# Altium footprint library TransistorThyristor_SMD.PcbLib: 42 footprints (part 3 of 3)
Each footprint in its own frame and in the unit in brackets; x right, y up, seen from the top. Pads: shape width x height; smd on the part's side, far side on the other; paste and mask are expansions set on the pad; w line width, h text height; cw(c..) or ccw(c..) is an arc to the next point about the centre after c.
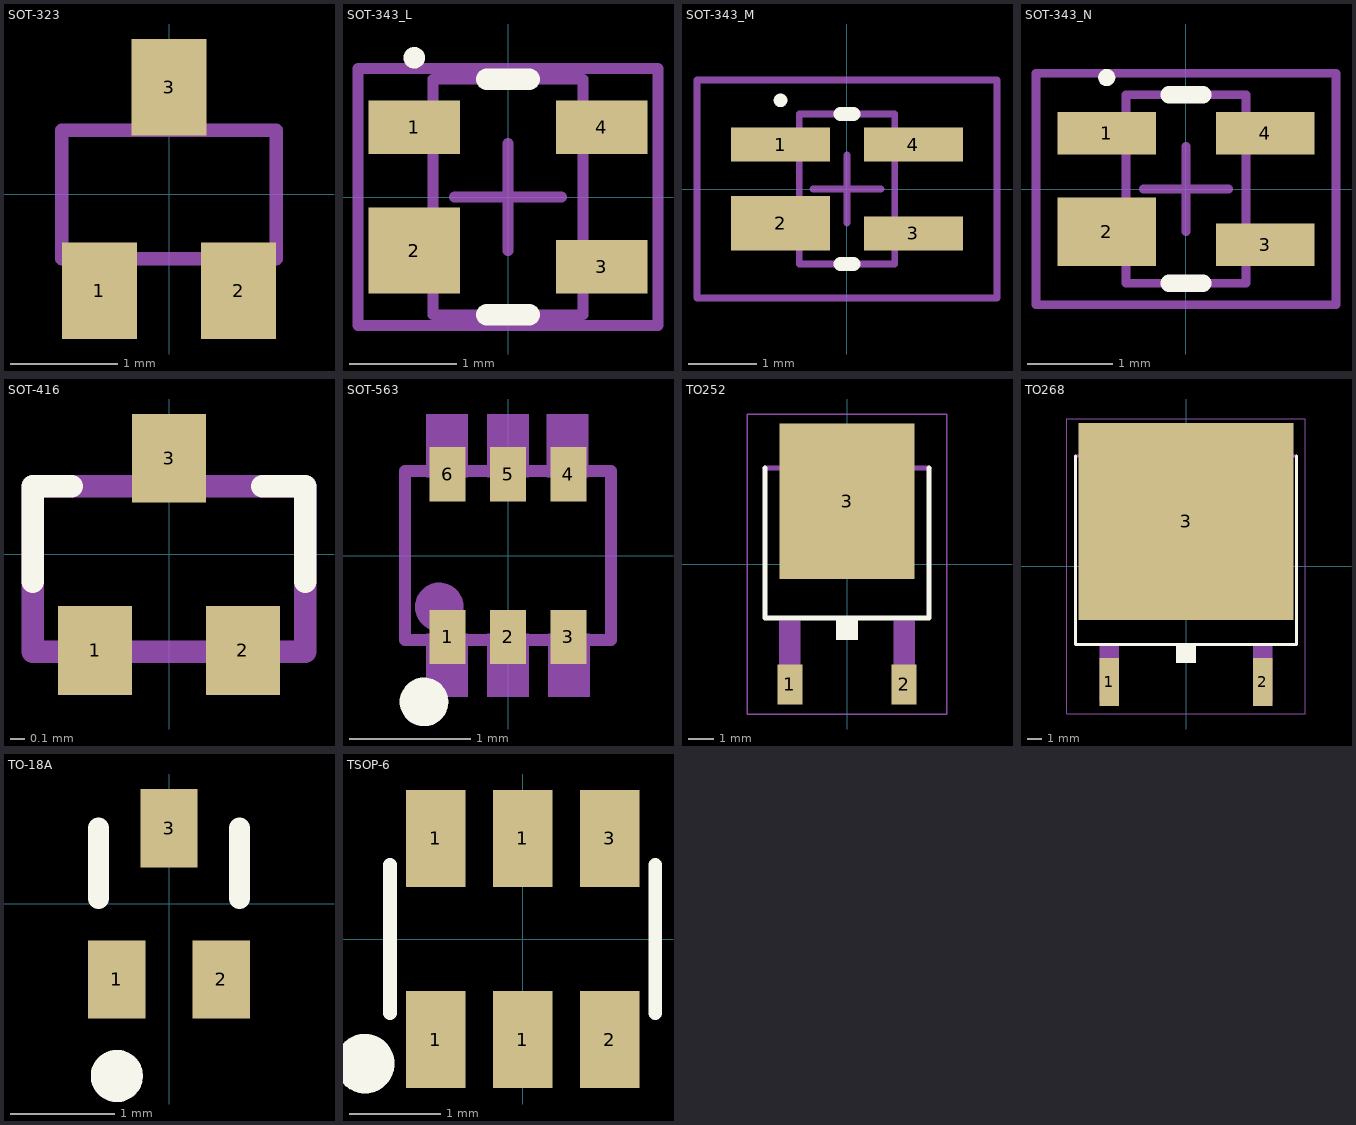
[diagram p2: the footprints below, top view; thin cyan lines are the x and y axes]

## SOT-323 [mm]
pads (3):
  rect 0.7x0.9 smd: 1(-0.65,-0.9) 2(0.65,-0.9) 3(0,1)
Mechanical 16:
  lines w0.127: -0.75,-0.6 -0.75,-1 -0.55,-1 -0.55,-0.6 ; -0.75,-0.6 -1,-0.6 -1,0.6 -0.1,0.6 ; -0.75,-0.6 -0.55,-0.6 ; -0.55,-0.6 0.55,-0.6 ; -0.1,0.6 -0.1,1 0.1,1 0.1,0.6 ; -0.1,0.6 0.1,0.6 ; 0.1,0.6 1,0.6 1,-0.6 0.75,-0.6 ; 0.55,-0.6 0.55,-1 0.75,-1 0.75,-0.6 ; 0.55,-0.6 0.75,-0.6
3D body "User Library-sc70-3.step": height 0.97, standoff -0.03, extent -1.05,-1.15 1.05,1.15

## SOT-343_L [mm] "SOT343, 4-Leads, Body 2x1.3 mm, Pitch 1.3mm, Lead Span 2.1mm, IPC High Density"
height 1
pads (4):
  rect 0.85x0.5 smd: 1(-0.875,0.65) 3(0.875,-0.65) 4(0.875,0.65)
  rect 0.85x0.8 smd: 2(-0.875,-0.5)
Top Overlay:
  circle w0.1: c-0.875,1.3 r0.05
  lines w0.2: -0.2,-1.1 0.2,-1.1 ; -0.2,1.1 0.2,1.1
Mechanical 13:
  lines w0.1: -0.7,-1.1 -0.7,1.1 0.7,1.1 0.7,-1.1 -0.7,-1.1
Mechanical 15:
  lines w0.1: -0.5,0 0.5,0 ; 0,-0.5 0,0.5 ; -1.4,-1.2 -1.4,1.2 1.4,1.2 1.4,-1.2 -1.4,-1.2
3D body "User Library-sot343.step": height 0.97, standoff -0.03, extent -1.15,-1.05 1.15,1.05

## SOT-343_M [mm] "SOT343, 4-Leads, Body 2x1.3 mm, Pitch 1.3mm, Lead Span 2.1mm, IPC Low Density"
height 1
pads (4):
  rect 1.45x0.5 smd: 1(-0.975,0.65) 3(0.975,-0.65) 4(0.975,0.65)
  rect 1.45x0.8 smd: 2(-0.975,-0.5)
Top Overlay:
  circle w0.1: c-0.975,1.3 r0.05
  lines w0.2: -0.1,-1.1 0.1,-1.1 ; -0.1,1.1 0.1,1.1
Mechanical 13:
  lines w0.1: -0.7,-1.1 -0.7,1.1 0.7,1.1 0.7,-1.1 -0.7,-1.1
Mechanical 15:
  lines w0.1: -0.5,0 0.5,0 ; 0,-0.5 0,0.5 ; -2.2,-1.6 -2.2,1.6 2.2,1.6 2.2,-1.6 -2.2,-1.6
3D body "User Library-sot343.step": height 0.97, standoff -0.03, extent -1.15,-1.05 1.15,1.05

## SOT-343_N [mm] "SOT343, 4-Leads, Body 2x1.3 mm, Pitch 1.3mm, Lead Span 2.1mm, IPC Medium Density"
height 1
pads (4):
  rect 1.15x0.5 smd: 1(-0.925,0.65) 3(0.925,-0.65) 4(0.925,0.65)
  rect 1.15x0.8 smd: 2(-0.925,-0.5)
Top Overlay:
  circle w0.1: c-0.925,1.3 r0.05
  lines w0.2: -0.2,-1.1 0.2,-1.1 ; -0.2,1.1 0.2,1.1
Mechanical 13:
  lines w0.1: -0.7,-1.1 -0.7,1.1 0.7,1.1 0.7,-1.1 -0.7,-1.1
Mechanical 15:
  lines w0.1: -0.5,0 0.5,0 ; 0,-0.5 0,0.5 ; -1.75,-1.35 -1.75,1.35 1.75,1.35 1.75,-1.35 -1.75,-1.35
3D body "User Library-sot343.step": height 0.97, standoff -0.03, extent -1.15,-1.05 1.15,1.05

## SOT-416 [mm]
pads (3):
  rect 0.5x0.6 smd: 1(-0.5,-0.65) 2(0.5,-0.65) 3(0,0.65)
Top Overlay:
  lines w0.152: -0.923,-0.185 -0.923,0.461 -0.658,0.461 ; 0.633,0.461 0.923,0.461 0.923,-0.185
Top Solder:
  rectangle: -0.87,-1.08 0.87,0.74
Mechanical 16:
  lines w0.152: -0.923,-0.66 -0.923,0.461 0.923,0.461 0.923,-0.66 -0.923,-0.66
3D body "User Library-SOT-416.step": height 0.79, standoff -0.01, extent -0.8,-0.8 0.8,0.8

## SOT-563 [mm]
pads (6):
  rect 0.3x0.45 smd: 1(-0.5,-0.674) 2(0,-0.674) 3(0.5,-0.674) 4(0.5,0.674) 5(0,0.674) 6(-0.5,0.674)
Top Overlay:
  circle w0.203: c-0.696,-1.214 r0.1
Mechanical 16:
  circle w0.203: c-0.569,-0.426 r0.1
  rectangle: -0.68,-1.173 -0.33,-0.648
  rectangle: -0.175,-1.173 0.175,-0.648
  rectangle: 0.33,-1.173 0.68,-0.648
  rectangle: 0.318,0.648 0.668,1.173
  rectangle: -0.175,0.648 0.175,1.173
  rectangle: -0.68,0.648 -0.33,1.173
  lines w0.102: -0.853,-0.7 -0.853,0.7 0.853,0.7 0.853,-0.7 -0.853,-0.7
3D body "User Library-SOT-563.step": height 0.56, standoff -0.03, extent -0.8,-0.813 0.8,0.813

## TO252 [mm]
pads (3):
  rect 1x1.6 smd: 1(-2.28,-4.8) 2(2.28,-4.8)
  rect 5.4x6.2 smd: 3(0,2.5)
Top Overlay:
  rectangle: -0.432,-3.023 0.432,-2.261
  lines w0.203: -3.277,3.835 -3.277,-2.159 3.277,-2.159 3.277,3.835
Mechanical 16:
  rectangle: -2.718,-5.156 -1.854,-2.261
  rectangle: 1.854,-5.156 2.718,-2.261
  region: 0,0 0.254,0 0.254,0.254 0,0.254
  lines w0.203: -3.277,3.835 3.277,3.835 ; -2.565,3.937 -2.565,4.648 -2.108,5.105 2.108,5.105 2.565,4.648 2.565,3.937 -2.565,3.937
Mechanical 27:
  lines w0.051: -3.973,-5.983 3.973,-5.983 3.973,5.983 -3.973,5.983 -3.973,-5.983
3D body "User Library-DPAK-TO2521.step": height 2.29, standoff -0.13, extent -3.295,-4.947 3.245,4.991

## TO268 [mm]
pads (3):
  rect 1.4x3.4 smd: 1(-5.45,-8.2) 2(5.45,-8.2)
  rect 15.24x13.991 smd: 3(0,3.2)
Top Overlay:
  rectangle: -0.72,-6.85 0.72,-5.55
  lines w0.203: -7.857,7.835 -7.857,-5.549 7.857,-5.549 7.857,7.835
Top Solder:
  rectangle: -7,-3.7 7,10.1
Mechanical 16:
  rectangle: -6.15,-9.55 -4.75,-6.85
  rectangle: -6.15,-6.85 -4.75,-5.55
  rectangle: 4.75,-6.85 6.15,-5.55
  rectangle: 4.75,-9.55 6.15,-6.85
  region: 0,0 0.254,0 0.254,0.254 0,0.254
  lines w0.203: -7.858,7.835 7.858,7.835 ; -6.565,7.937 -6.565,8.978 -6.108,9.436 6.108,9.436 6.565,8.978 6.565,7.937 -6.565,7.937
Mechanical 27:
  lines w0.051: -8.473,-10.483 8.473,-10.483 8.473,10.483 -8.473,10.483 -8.473,-10.483
3D body "User Library-TO545P1905X510_HS-3-TO268AA.step": height 5.1, standoff 0, extent -8.026,-9.449 7.976,9.601

## TO-18A [mm] "SC-89; 3 Flat Leads; Body 1.6 x 1.6 x 0.7 mm, inc leads (LxWxH typ)"
height 0.8
pads (3):
  rect 0.55x0.75 smd: 1(-0.5,-0.725) 2(0.5,-0.725) 3(0,0.725)
Top Overlay:
  circle w0.25: c-0.5,-1.65 r0.125
  lines w0.2: -0.676,0.05 -0.676,0.725 ; 0.675,0.05 0.675,0.725

## TSOP-6 [mm]
pads (6):
  rect 0.65x1.06 smd: 1(-0.95,-1.1) 1(-0.95,1.1) 1(0,-1.1) 1(0,1.1) 2(0.95,-1.1) 3(0.95,1.1)
Top Overlay:
  circle w0.5: c-1.725,-1.362 r0.075
  lines w0.15: -1.45,-0.813 -1.45,0.813 ; 1.45,-0.813 1.45,0.813
3D body "6-TSOP.STEP": height 0.98, standoff -0.04, extent -1.496,-1.402 1.568,1.469